# Altium footprint library ECHU1H681GX5.PcbLib: 1 footprints
Each footprint in its own frame and in the unit in brackets; x right, y up, seen from the top. Pads: shape width x height; smd on the part's side, far side on the other; paste and mask are expansions set on the pad; w line width, h text height; cw(c..) or ccw(c..) is an arc to the next point about the centre after c.
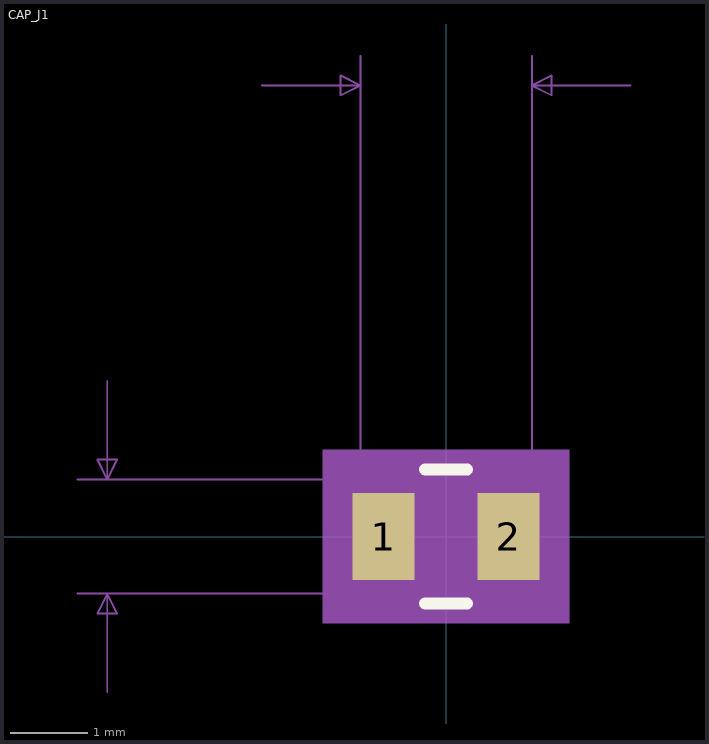
[diagram p0: the footprint, top view; thin cyan lines are the x and y axes]

## CAP_J1 [mil]
pads (2):
  rect 31.5x44 smd: 1(-31.75,0) 2(31.75,0)
Top Overlay:
  lines w6: -10.75,-34 10.75,-34 ; -10.75,34 10.75,34
Mechanical 5:
  region: 62.5,-44 -62.5,-44 -62.5,44 62.5,44
Mechanical 7:
  lines w1: -187,-29 53.5,-29 ; -187,29 53.5,29 ; -172,-79 -172,-29 ; -172,79 -172,29 ; -93.5,229 -43.5,229 ; -43.5,32 -43.5,244 ; 43.5,32 43.5,244 ; 93.5,229 43.5,229 ; -172,-29 -177,-39 -167,-39 -172,-29 ; -172,29 -177,39 -167,39 -172,29 ; -43.5,229 -53.5,234 -53.5,224 -43.5,229 ; 43.5,229 53.5,234 53.5,224 43.5,229
  text "Default Pad Style: RX31p5Y44D0T" at -387.5,-239 h50
  text "Alternate 1 Pad Style: OX60Y90D30P" at -425,-339 h50
  text "Alternate 2 Pad Style: OX60Y90D30P" at -425,-439 h50
  text "0.087in/2.21mm" at -87.5,249 h25
  text "0.058in/1.473mm" at -379.5,-12.5 h25
Mechanical 13:
  lines w1: -43.5,-29 43.5,-29 43.5,29 -43.5,29 -43.5,-29
Mechanical 15:
  region: -53.5,-32 -57.5,-32 -57.5,32 -53.5,32 -53.5,39 53.5,39 53.5,32 57.5,32 57.5,-32 53.5,-32 53.5,-39 -53.5,-39
  lines w6: -57.5,-32 -57.5,32 -53.5,32 -53.5,39 53.5,39 53.5,32 57.5,32 57.5,-32 53.5,-32 53.5,-39 -53.5,-39 -53.5,-32 -57.5,-32
3D body: height 10, standoff 0, extent 0,0 10,10